# Altium footprint library PcbLib1.PcbLib: 35 footprints (part 1 of 3)
Each footprint in its own frame and in the unit in brackets; x right, y up, seen from the top. Pads: shape width x height; smd on the part's side, far side on the other; paste and mask are expansions set on the pad; w line width, h text height; cw(c..) or ccw(c..) is an arc to the next point about the centre after c.
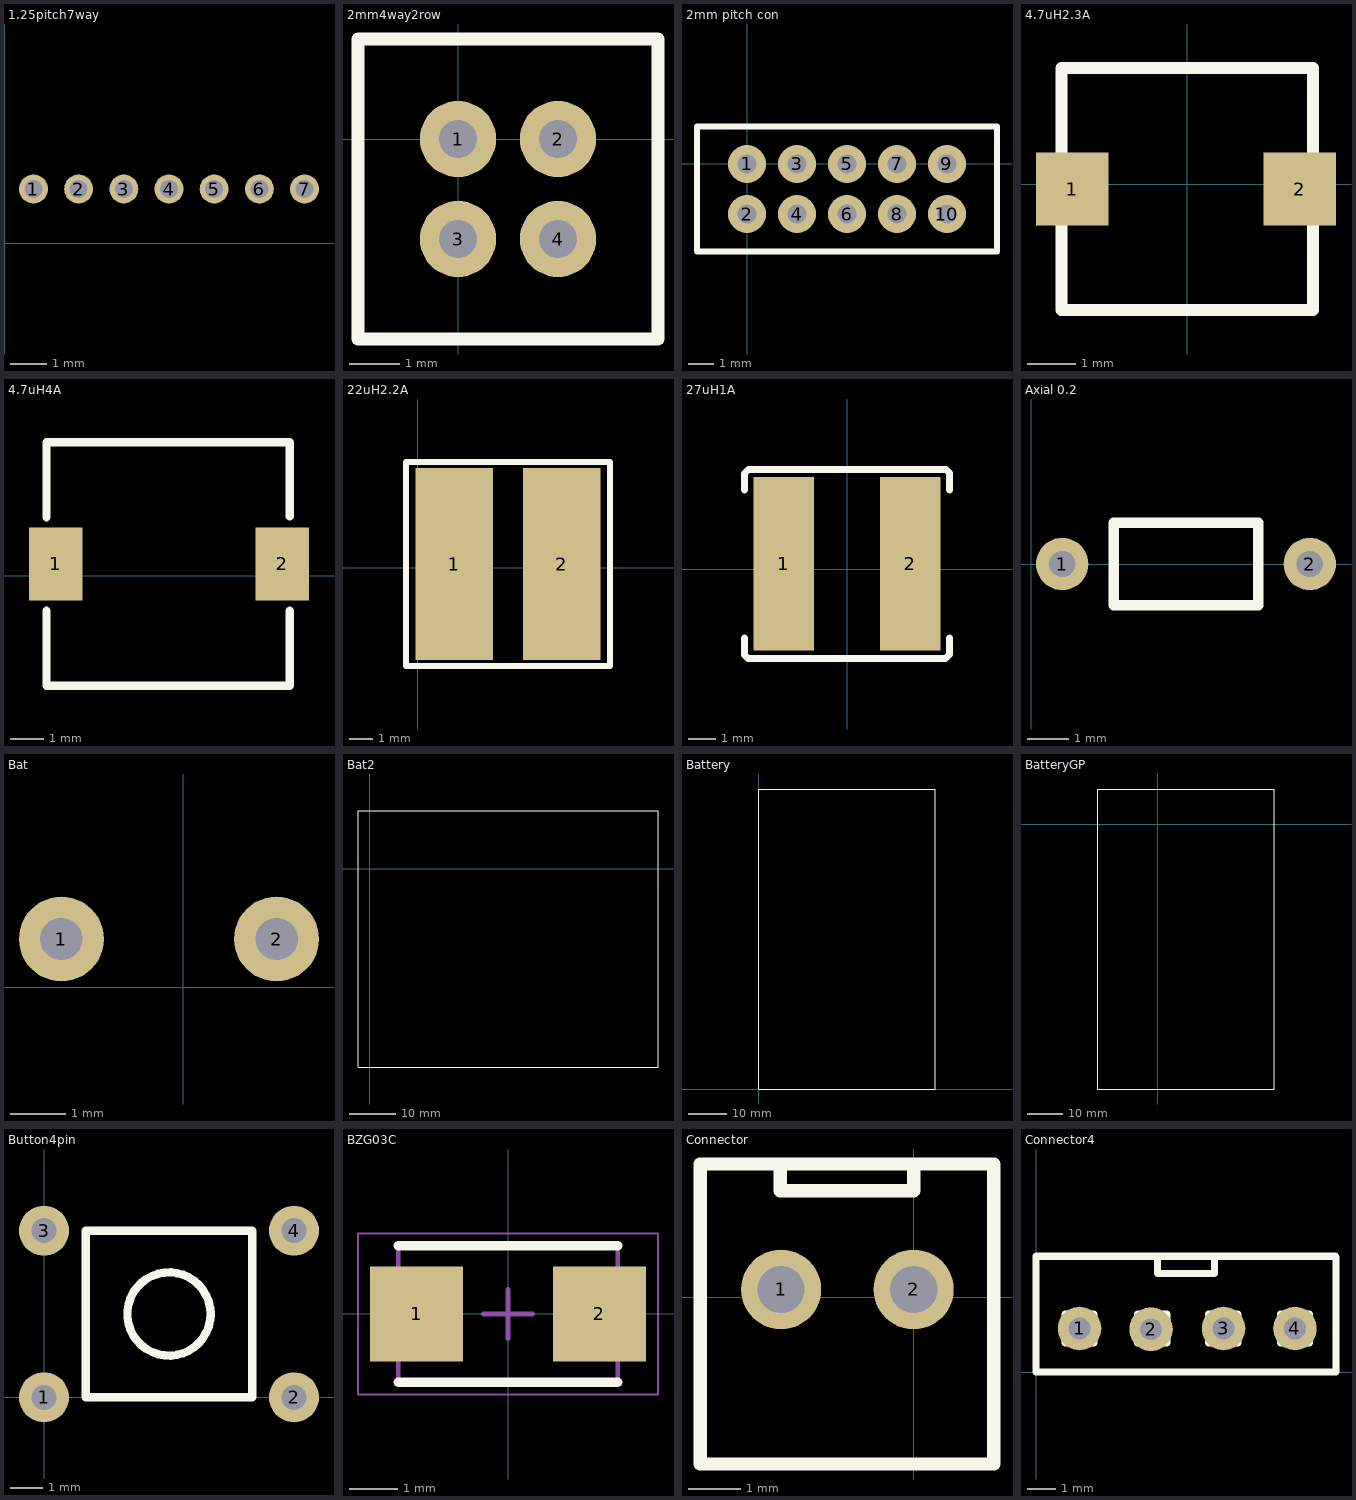
[diagram p0: the footprints below, top view; thin cyan lines are the x and y axes]

## 1.25pitch7way [mm]
pads (7):
  round 0.8 hole 0.5: 1(0.8,1.5) 2(2.05,1.5) 3(3.3,1.5) 4(4.55,1.5) 5(5.8,1.5) 6(7.05,1.5) 7(8.3,1.5)
3D body "530470710.stp": height 4.2, standoff -2.3, extent -0.725,-0.55 9.775,2.65

## 2mm4way2row [mil]
pads (4):
  round 60 hole 30: 1(0,0) 2(78.74,0) 3(0,-78.74) 4(78.74,-78.74)
Top Overlay:
  lines w10: -78.74,-157.48 157.48,-157.48 157.48,78.74 -78.74,78.74 -78.74,-157.48
3D body "878310441.stp": height 251.97, standoff -98.43, extent -91.53,-163.38 170.28,84.65

## 2mm pitch con [mil]
pads (10):
  round 60 hole 30: 1(0,0) 2(0,-78.74) 3(78.74,0) 4(78.74,-78.74) 5(157.48,0) 6(157.48,-78.74) 7(236.22,0) 8(236.22,-78.74) 9(314.96,0) 10(314.96,-78.74)
Top Overlay:
  lines w10: -78.74,-137.8 393.7,-137.8 393.7,59.06 -78.74,59.06 -78.74,-137.8
3D body "User Library-Hirose - DF11-10DP-2DSA(24) (Shrouded Header 2mm, 10 Pin).step": height 259.84, standoff -118.11, extent -78.74,-137.8 393.7,59.06

## 4.7uH2.3A [mm]
pads (2):
  rect 1.5x1.5 smd: 1(-2.375,-0.1) 2(2.325,-0.1)
Top Overlay:
  lines w0.254: -2.6,-2.6 2.6,-2.6 2.6,2.4 -2.6,2.4 -2.6,-2.6
3D body: height 2.5, standoff 0, extent -2.727,-2.727 2.727,2.527

## 4.7uH4A [mm]
pads (2):
  rect 1.6x2.2 smd: 1(-9.925,0.35) 2(-3.125,0.35)
Top Overlay:
  lines w0.254: -10.2,-1.05 -10.2,-3.3 -2.9,-3.3 -2.9,-1.05 ; -10.2,1.75 -10.2,4 -2.9,4 -2.9,1.775
3D body: height 3, standoff 0, extent -10.199,-3.299 -2.901,3.999

## 22uH2.2A [mm]
pads (2):
  rect 3.3x8.2 smd: 1(1.55,0.15) 2(6.15,0.15)
Top Overlay:
  lines w0.254: -0.5,4.4 -0.5,4.5 ; -0.5,4.5 8.2,4.5 ; -0.5,4.5 -0.5,-4.2 8.2,-4.2 8.2,4.5 ; -0.5,4.5 -0.5,4.5 ; 8.2,4.5 8.2,4.5
3D body: height 1, standoff 0, extent -0.202,-4.052 7.902,4.352
3D body: height 3, standoff 0, extent -0.455,-4.155 8.155,4.455

## 27uH1A [mm]
pads (2):
  rect 2.2x6.3 smd: 1(-2.3,0.2) 2(2.3,0.2)
Top Overlay:
  lines w0.254: -3.725,-2.5 -3.725,-3.125 -3.6,-3.25 3.5,-3.25 3.575,-3.25 3.725,-3.1 3.725,-2.5 ; -3.725,2.875 -3.725,3.475 -3.575,3.625 -3.5,3.625 3.6,3.625 3.725,3.5 3.725,2.875
3D body: height 2.5, standoff 0, extent -2.852,-3.128 2.652,3.375

## Axial 0.2 [mm]
pads (2):
  round 1.27 hole 0.635: 1(0.75,0) 2(6.75,0)
Top Overlay:
  lines w0.254: 2,-1 5.5,-1 5.5,1 2,1 2,-1
3D body "User Library-Res_1-8w_9_1.STEP": height 2.4, standoff -1.5, extent 0.55,-0.9 6.95,0.9

## Bat [mil]
pads (2):
  round 60 hole 30: 1(-86,34) 2(66,34)

## Bat2 [mil]
Top Overlay:
  lines w10: -98.43,-1692.91 -98.43,492.13 2460.63,492.13 2460.63,-1692.91 -98.43,-1692.91
3D body: height 708.66, standoff 0, extent -103.43,-1697.91 2465.63,497.13

## Battery [mil]
Top Overlay:
  lines w10: 0,0 1811.02,0 1811.02,19.68 1811.02,3070.87 0,3070.87 0,0
3D body: height 354.33, standoff 0, extent 0.02,0.02 1811,3070.85
3D body: height 354.33, standoff 0, extent 0.02,0.02 1811,3070.85

## BatteryGP [mil]
Top Overlay:
  lines w10: -669.29,-2952.76 1299.21,-2952.76 1299.21,393.7 -669.29,393.7 -669.29,-2952.76
3D body: height 334.65, standoff 0, extent -669.27,-2952.74 1299.19,393.68

## Button4pin [mil]
pads (4):
  round 60 hole 30: 1(0,0) 2(300,0) 3(0,200) 4(300,200)
Top Overlay:
  circle w10: c150,100 r50
  lines w10: 50,0 250,0 250,200 50,200 50,0
3D body: height 236.22, standoff 196.85, extent 100.02,50.02 199.98,149.98
3D body: height 157.48, standoff 39.37, extent 50.02,0.02 249.98,199.98
3D body: height 196.85, standoff 39.37, extent 100.02,50.02 199.98,149.98

## BZG03C [mm] "Molded Inductor, 2-Leads, Body 4,50x2,80mm, IPC Medium Density"
height 2.3
pads (2):
  rect 1.9x1.95 smd: 1(-1.875,0) 2(1.875,0)
Top Overlay:
  lines w0.2: -2.25,-1.4 2.25,-1.4 ; -2.25,1.4 2.25,1.4
Mechanical 13:
  lines w0.1: -2.25,-1.4 2.25,-1.4 2.25,1.4 -2.25,1.4 -2.25,-1.4
Mechanical 15:
  lines w0.05: -3.075,-1.65 3.075,-1.65 3.075,1.65 -3.075,1.65 -3.075,-1.65
  lines w0.1: -0.5,0 0.5,0 ; 0,-0.5 0,0.5
3D body: height 2.3, standoff 0, extent -2.25,-1.4 2.25,1.4

## Connector [mm]
pads (2):
  round 1.524 hole 0.9: 1(-2.525,0.15) 2(0,0.15)
Top Overlay:
  lines w0.254: -2.54,2.54 -2.54,2.032 0,2.032 0,2.54 ; -4.064,-3.175 1.524,-3.175 1.524,2.54 -4.064,2.54 -4.064,-3.175
3D body: height 1.27, standoff 0, extent -4.064,-3.175 1.523,2.539
3D body: height 7.62, standoff 0, extent -0.507,-0.507 0.507,0.507
3D body: height 7.62, standoff 0, extent -3.047,-0.507 -2.033,0.507
3D body: height 10.16, standoff 0, extent -2.539,2.033 -0.001,2.539

## Connector4 [mil]
pads (4):
  round 60 hole 30 square: 1(60,60) 2(158.52,58.94)
  round 60 hole 30: 3(258.43,60) 4(356.85,60)
Top Overlay:
  lines w10: 167.32,159.45 167.32,135.83 246.06,135.83 246.06,159.45 ; 220,0 220.06,-0.06 ; 220,0 220.04,-0.04 ; 220,0 0,0 0,160 0.55,159.45 412.4,159.45 413.39,158.46 413.39,-0.06 334.52,-0.06 220.06,-0.06 ; 40,40 80,40 80,80 40,80 40,40 ; 140,40 140,80 180,80 180,40 140,40 ; 238,40 278,40 278,80 238,80 238,40 ; 337,40 377,40 377,80 337,80 337,40
3D body: height 0, standoff 0, extent 168.29,135.92 245.1,158.02
3D body: height 300, standoff 0, extent 337.02,40.02 376.98,79.98
3D body: height 300, standoff 0, extent 238.02,40.02 277.98,79.98
3D body: height 300, standoff 0, extent 140.02,40.02 179.98,79.98
3D body: height 300, standoff 0, extent 40.02,40.02 79.98,79.98
3D body: height 0, standoff 0, extent 337.02,40.02 376.98,79.98
3D body: height 0, standoff 0, extent 140.02,40.02 179.98,79.98
3D body: height 0, standoff 0, extent 238.02,40.02 277.98,79.98
3D body: height 39.37, standoff 0, extent -0.01,-1.06 413.39,160
3D body: height 300, standoff 0, extent 167.34,135.85 246.04,159.43
3D body: height 0, standoff 0, extent 337.02,40.02 376.98,79.98
3D body: height 0, standoff 0, extent 238.02,40.02 277.98,79.98
3D body: height 0, standoff 0, extent 140.02,40.02 179.98,79.98
3D body: height 0, standoff 0, extent 40.02,40.02 79.98,79.98